# Altium schematic symbol library lab10.SchLib: 5 symbols
Pins are listed as number, name and electrical type; pins without a type are passive.

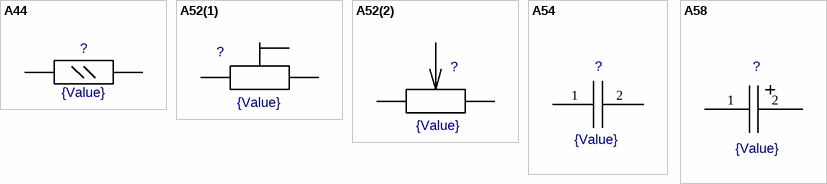
[diagram p0: symbols A44 to A58]

## A44
designator ?  value {Value}  (hidden comment: *)
footprint A44
pins: 1, 2

## A52(1)
designator ?  value {Value}  (hidden comment: *)
footprint A52
pins: 1, 2, 3

## A52(2)
designator ?  value {Value}  (hidden comment: *)
footprint A52
pins: 1, 2, 3

## A54
designator ?  value {Value}  (hidden comment: *)
footprint A54
pins: 1, 2

## A58
designator ?  value {Value}  (hidden comment: *)
footprint A58
pins: 1, 2